# Altium footprint library Leiterplatte.PcbLib: 9 footprints
Each footprint in its own frame and in the unit in brackets; x right, y up, seen from the top. Pads: shape width x height; smd on the part's side, far side on the other; paste and mask are expansions set on the pad; w line width, h text height; cw(c..) or ccw(c..) is an arc to the next point about the centre after c.
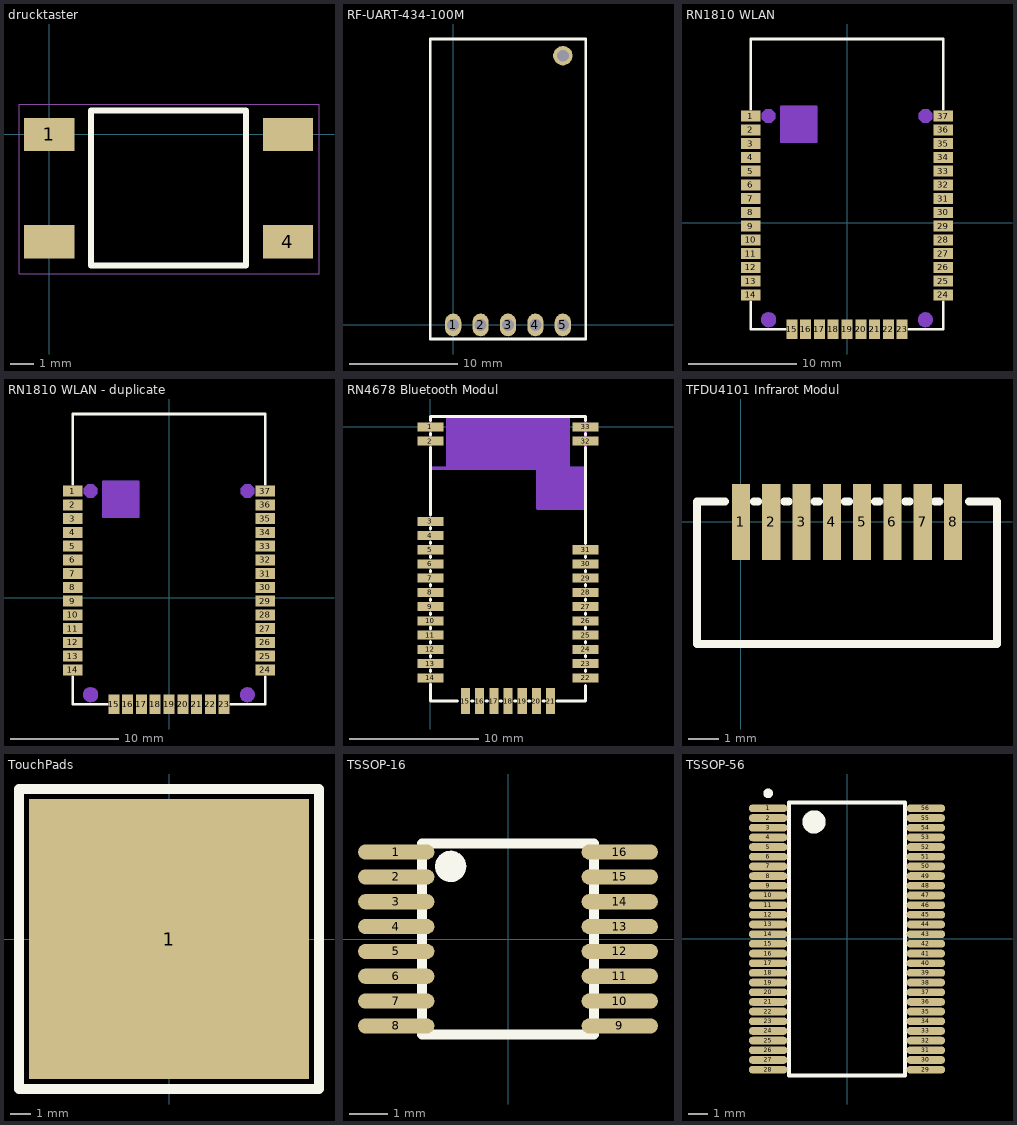
[diagram p0: the footprints below, top view; thin cyan lines are the x and y axes]

## drucktaster [mm]
pads (4):
  rect 2.1x1.4 smd: 1(0,0) 4(10,-4.5) ""(0,-4.5) ""(10,0)
Top Overlay:
  lines w0.254: 1.75,-5.5 8.25,-5.5 8.25,1 1.75,1 1.75,-5.5
Mechanical 15:
  lines w0.05: -1.27,-5.842 5.08,-5.842 11.303,-5.842 11.303,1.27 5.08,1.27 -1.27,1.27 -1.27,1.016 -1.27,-5.588 -1.27,-5.842
3D body "1301.9314_3.STEP": height 4.3, standoff 0, extent 0,-5.25 10,0.75

## RF-UART-434-100M [mm]
pads (6):
  oval 1.5x2.1 hole 1.1: 1(0,0) 2(2.54,0) 3(5.08,0) 4(7.62,0) 5(10.16,0)
  round 1.8 hole 1.1: ""(10.16,24.95)
Top Overlay:
  lines w0.254: -2.12,-1.3 -2.12,26.5 5.08,26.5 12.28,26.5 12.28,-1.3 5.08,-1.3 -2.12,-1.3
3D body "pcb_connector_346-87-102-41-036101.stp": height 4.45, standoff -2.75, extent 6.34,-1.3 11.42,1.24
3D body "pcb_connector_346-87-102-41-036101.stp": height 4.45, standoff -2.75, extent -1.28,-1.3 3.8,1.24
3D body "pcb_connector_346-87-102-41-036101.stp": height 4.45, standoff -2.75, extent 3.8,-1.3 8.88,1.24

## RN1810 WLAN [mil]
pads (37):
  rect 70x40 smd: 1(-350,387.5) 2(-350,337.5) 3(-350,287.5) 4(-350,237.5) 5(-350,187.5) 6(-350,137.5) 7(-350,87.5) 8(-350,37.5) 9(-350,-12.5) 10(-350,-62.5) 11(-350,-112.5) 12(-350,-162.5) 13(-350,-212.5) 14(-350,-262.5) 24(350,-262.5) 25(350,-212.5) 26(350,-162.5) 27(350,-112.5) 28(350,-62.5) 29(350,-12.5) 30(350,37.5) 31(350,87.5) 32(350,137.5) 33(350,187.5) 34(350,237.5) 35(350,287.5) 36(350,337.5) 37(350,387.5)
  rect 40x70 smd: 15(-200,-387.5) 16(-150,-387.5) 17(-100,-387.5) 18(-50,-387.5) 19(0,-387.5) 20(50,-387.5) 21(100,-387.5) 22(150,-387.5) 23(200,-387.5)
Top Layer keep-out:
  circle w5: c285,-352.5 r25
  circle w5: c-285,-352.5 r25
  rectangle: -240,292.5 -110,422.5
  region: -300,457.5
  region: -295,412.5 -309,398.5 -309,376.5 -295,362.5 -275,362.5 -260,377.5 -260,397.5 -275,412.5
  region: 275,412.5 260,397.5 260,377.5 275,362.5 295,362.5 309,376.5 309,398.5 295,412.5
  region: 275,-327.5 260,-342.5 260,-362.5 275,-377.5 295,-377.5 310,-362.5 310,-342.5 295,-327.5
  region: -295,-327.5 -310,-342.5 -310,-362.5 -295,-377.5 -275,-377.5 -260,-362.5 -260,-342.5 -275,-327.5
  lines w5: -240,292.5 -110,292.5 -110,422.5 -240,422.5 -240,292.5
Bottom Layer keep-out:
  circle w5: c285,-352.5 r25
  circle w5: c-285,-352.5 r25
  rectangle: -240,292.5 -110,422.5
  region: -295,412.5 -310,397.5 -310,377.5 -295,362.5 -275,362.5 -260,377.5 -260,397.5 -275,412.5
  region: 275,412.5 260,397.5 260,377.5 275,362.5 295,362.5 310,377.5 310,397.5 295,412.5
  region: 275,-327.5 260,-342.5 260,-362.5 275,-377.5 295,-377.5 310,-362.5 310,-342.5 295,-327.5
  region: -295,-327.5 -310,-342.5 -310,-362.5 -295,-377.5 -275,-377.5 -260,-362.5 -260,-342.5 -275,-327.5
  lines w5: -240,292.5 -110,292.5 -110,422.5 -240,422.5 -240,292.5
Top Overlay:
  lines w10: -350,-287.5 -350,-387.5 -225,-387.5 ; -350,412.5 -350,667.5 350,667.5 350,412.5 ; 225,-387.5 350,-387.5 350,-287.5

## RN1810 WLAN - duplicate [mil]
pads (37):
  rect 70x40 smd: 1(-350,387.5) 2(-350,337.5) 3(-350,287.5) 4(-350,237.5) 5(-350,187.5) 6(-350,137.5) 7(-350,87.5) 8(-350,37.5) 9(-350,-12.5) 10(-350,-62.5) 11(-350,-112.5) 12(-350,-162.5) 13(-350,-212.5) 14(-350,-262.5) 24(350,-262.5) 25(350,-212.5) 26(350,-162.5) 27(350,-112.5) 28(350,-62.5) 29(350,-12.5) 30(350,37.5) 31(350,87.5) 32(350,137.5) 33(350,187.5) 34(350,237.5) 35(350,287.5) 36(350,337.5) 37(350,387.5)
  rect 40x70 smd: 15(-200,-387.5) 16(-150,-387.5) 17(-100,-387.5) 18(-50,-387.5) 19(0,-387.5) 20(50,-387.5) 21(100,-387.5) 22(150,-387.5) 23(200,-387.5)
Top Layer keep-out:
  circle w5: c-285,-352.5 r25
  circle w5: c285,-352.5 r25
  rectangle: -240,292.5 -110,422.5
  region: -295,-327.5 -310,-342.5 -310,-362.5 -295,-377.5 -275,-377.5 -260,-362.5 -260,-342.5 -275,-327.5
  region: 275,-327.5 260,-342.5 260,-362.5 275,-377.5 295,-377.5 310,-362.5 310,-342.5 295,-327.5
  region: 275,412.5 260,397.5 260,377.5 275,362.5 295,362.5 310,377.5 310,397.5 295,412.5
  region: -295,412.5 -310,397.5 -310,377.5 -295,362.5 -275,362.5 -260,377.5 -260,397.5 -275,412.5
  region: -300,457.5
  lines w5: -240,292.5 -240,422.5 -110,422.5 -110,292.5 -240,292.5
Bottom Layer keep-out:
  circle w5: c-285,-352.5 r25
  circle w5: c285,-352.5 r25
  rectangle: -240,292.5 -110,422.5
  region: -295,-327.5 -310,-342.5 -310,-362.5 -295,-377.5 -275,-377.5 -260,-362.5 -260,-342.5 -275,-327.5
  region: 275,-327.5 260,-342.5 260,-362.5 275,-377.5 295,-377.5 310,-362.5 310,-342.5 295,-327.5
  region: 275,412.5 260,397.5 260,377.5 275,362.5 295,362.5 310,377.5 310,397.5 295,412.5
  region: -295,412.5 -310,397.5 -310,377.5 -295,362.5 -275,362.5 -260,377.5 -260,397.5 -275,412.5
  lines w5: -240,292.5 -240,422.5 -110,422.5 -110,292.5 -240,292.5
Top Overlay:
  lines w10: -350,-287.5 -350,-387.5 -225,-387.5 ; -350,412.5 -350,667.5 350,667.5 350,412.5 ; 225,-387.5 350,-387.5 350,-287.5

## RN4678 Bluetooth Modul [mm]
pads (33):
  rect 2x0.7 smd: 1(0,0) 2(0,-1.1) 3(0,-7.3) 4(0,-8.4) 5(0,-9.5) 6(0,-10.6) 7(0,-11.7) 8(0,-12.8) 9(0,-13.9) 10(0,-15) 11(0,-16.1) 12(0,-17.2) 13(0,-18.3) 14(0,-19.4) 22(12,-19.4) 23(12,-18.3) 24(12,-17.2) 25(12,-16.1) 26(12,-15) 27(12,-13.9) 28(12,-12.8) 29(12,-11.7) 30(12,-10.6) 31(12,-9.5) 32(12,-1.1) 33(12,0)
  rect 0.7x2 smd: 15(2.7,-21.2) 16(3.8,-21.2) 17(4.9,-21.2) 18(6,-21.2) 19(7.1,-21.2) 20(8.2,-21.2) 21(9.3,-21.2)
Top Layer keep-out:
  rectangle: 1.2,-3.2 10.8,0.8
  rectangle: 8.3,-6.3 12,-3.2
  lines w0.254: 12,-3.2 12,0.8 0,0.8 0,-3.2 12,-3.2 ; 12,-3.2 8.3,-3.2 8.3,-6.3 12,-6.3 12,-3.2
Bottom Layer keep-out:
  rectangle: 1.2,-3.2 10.8,0.8
  rectangle: 8.3,-6.3 12,-3.2
  lines w0.254: 12,-6.3 8.3,-6.3 8.3,-3.2 12,-3.2 ; 12,-3.2 12,0.8 0,0.8 0,-3.2 12,-3.2
Top Overlay:
  lines w0.254: 0,-19.9 0,-21.2 2.1,-21.2 ; 0,-18.9 0,-18.8 ; 0,-17.8 0,-17.7 ; 0,-16.7 0,-16.6 ; 0,-15.6 0,-15.5 ; 0,-14.5 0,-14.4 ; 0,-13.4 0,-13.3 ; 0,-12.3 0,-12.2 ; 0,-11.2 0,-11.1 ; 0,-10.1 0,-10 ; 0,-9 0,-8.9 ; 0,-7.9 0,-7.8 ; 0,-6.8 0,-1.6 ; 0,-0.6 0,-0.5 ; 0,0.5 0,0.8 12,0.8 12,0.5 ; 3.2,-21.2 3.3,-21.2 ; 4.3,-21.2 4.4,-21.2 ; 5.4,-21.2 5.5,-21.2 ; 6.5,-21.2 6.6,-21.2 ; 7.6,-21.2 7.7,-21.2 ; 8.7,-21.2 8.8,-21.2 ; 9.8,-21.2 12,-21.2 12,-20 ; 12,-18.9 12,-18.8 ; 12,-17.8 12,-17.7 ; 12,-16.7 12,-16.6 ; 12,-15.6 12,-15.5 ; 12,-14.5 12,-14.4 ; 12,-13.4 12,-13.3 ; 12,-12.3 12,-12.2 ; 12,-11.2 12,-11.1 ; 12,-10.1 12,-10 ; 12,-9 12,-1.6 ; 12,-0.6 12,-0.5
3D body "RN4678_BluetoothModul.STEP": height 2.4, standoff 0, extent 0,-21.2 12,0.8

## TFDU4101 Infrarot Modul [mm]
pads (8):
  rect 0.6x2.5 smd: 1(0,0) 2(1,0) 3(2,0) 4(3,0) 5(4,0) 6(5,0) 7(6,0) 8(7,0)
Top Overlay:
  lines w0.254: -0.525,0.675 -1.45,0.675 -1.45,-4.025 8.45,-4.025 8.45,0.675 7.525,0.675 ; 0.425,0.675 0.575,0.675 ; 1.425,0.675 1.575,0.675 ; 2.425,0.675 2.575,0.675 ; 3.425,0.675 3.575,0.675 ; 4.425,0.675 4.575,0.675 ; 5.425,0.675 5.575,0.675 ; 6.4,0.675 6.55,0.675
3D body "TFDU4101-TR3_IRModul.STEP": height 4.15, standoff 0, extent -1.45,-4.025 8.45,0.676

## TouchPads [mm]
pads (1):
  rect 14x14 smd: 1(0,0)
Top Overlay:
  lines w0.5: -7.5,-7.5 -7.5,7.5 7.5,7.5 7.5,-7.5 -7.5,-7.5

## TSSOP-16 [mm]
pads (16):
  oval 2x0.4 smd: 1(-2.925,2.275) 2(-2.925,1.625) 3(-2.925,0.975) 4(-2.925,0.325) 5(-2.925,-0.325) 6(-2.925,-0.975) 7(-2.925,-1.625) 8(-2.925,-2.275) 9(2.925,-2.275) 10(2.925,-1.625) 11(2.925,-0.975) 12(2.925,-0.325) 13(2.925,0.325) 14(2.925,0.975) 15(2.925,1.625) 16(2.925,2.275)
Top Overlay:
  circle w0.254: c-1.5,1.9 r0.283
  region: -1.5,2.2 -1.8,1.9 -1.5,1.6 -1.217,1.883 -1.217,1.9
  lines w0.254: -2.25,-2.5 2.25,-2.5 2.25,2.5 -2.25,2.5 -2.25,-2.5
3D body "TSSOP-16 5_1x4_4.STEP": height 1.1, standoff 0, extent -3.2,-2.55 3.2,2.55

## TSSOP-56 [mm]
height 1.2
pads (56):
  oval 2x0.4 smd: 1(-4.075,6.75) 2(-4.075,6.25) 3(-4.075,5.75) 4(-4.075,5.25) 5(-4.075,4.75) 6(-4.075,4.25) 7(-4.075,3.75) 8(-4.075,3.25) 9(-4.075,2.75) 10(-4.075,2.25) 11(-4.075,1.75) 12(-4.075,1.25) 13(-4.075,0.75) 14(-4.075,0.25) 15(-4.075,-0.25) 16(-4.075,-0.75) 17(-4.075,-1.25) 18(-4.075,-1.75) 19(-4.075,-2.25) 20(-4.075,-2.75) 21(-4.075,-3.25) 22(-4.075,-3.75) 23(-4.075,-4.25) 24(-4.075,-4.75) 25(-4.075,-5.25) 26(-4.075,-5.75) 27(-4.075,-6.25) 28(-4.075,-6.75) 29(4.075,-6.75) 30(4.075,-6.25) 31(4.075,-5.75) 32(4.075,-5.25) 33(4.075,-4.75) 34(4.075,-4.25) 35(4.075,-3.75) 36(4.075,-3.25) 37(4.075,-2.75) 38(4.075,-2.25) 39(4.075,-1.75) 40(4.075,-1.25) 41(4.075,-0.75) 42(4.075,-0.25) 43(4.075,0.25) 44(4.075,0.75) 45(4.075,1.25) 46(4.075,1.75) 47(4.075,2.25) 48(4.075,2.75) 49(4.075,3.25) 50(4.075,3.75) 51(4.075,4.25) 52(4.075,4.75) 53(4.075,5.25) 54(4.075,5.75) 55(4.075,6.25) 56(4.075,6.75)
Top Overlay:
  circle w0.25: c-4.075,7.525 r0.125
  circle w0.6: c-1.7,6.05 r0.3
  lines w0.2: -3,-7.05 -3,7.05 3,7.05 3,-7.05 -3,-7.05
3D body "TSSOP-56.step": height 1.2, standoff 0, extent -4.1,-7.05 4,7.05